# Altium schematic symbol library SSW-126-01-G-D.SchLib: 1 symbol
Pins are listed as number, name and electrical type; pins without a type are passive.

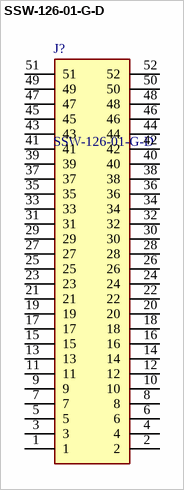
[diagram p0: symbol SSW-126-01-G-D]

## SSW-126-01-G-D
designator J?
52 Position, .100&quot; Tiger Buy&trade; Socket Strip; Manufacturer_Name: SAMTEC; Mouser Part Number: 200-SSW12601GD; Mouser Price/Stock: https://www.mouser.co.uk/ProductDetail/Samtec/SSW-126-01-G-D?qs=rU5fayqh%252BE0Emlk%2F61GTGg%3D%3D; Manufacturer_Part_Number: SSW-126-01-G-D; Datasheet Link: http://suddendocs.samtec.com/prints/ssw-1xx-xx-xxx-x-xx-xxx-xx-mkt.pdf
footprint SSW-126-XX-YYY-D
pins: 1, 2, 3, 4, 5, 6, 7, 8, 9, 10, 11, 12, 13, 14, 15, 16, 17, 18, 19, 20, 21, 22, 23, 24, 25, 26, 27, 28, 29, 30, 31, 32, 33, 34, 35, 36, 37, 38, 39, 40, 41, 42, 43, 44, 45, 46, 47, 48, 49, 50, 51, 52